# Altium schematic symbol library CAP-NP.SchLib: 1 symbol
Pins are listed as number, name and electrical type; pins without a type are passive.

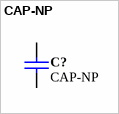
[diagram p0: symbol CAP-NP]

## CAP-NP
designator C?
Capacitor, Non-Polarized
pins: 1, 2